# EAGLE library part AD9236 (library ic)
AD9236: 12bit A/D converter (Analog Devices) 80MSPS, 3V supply, 2Vpp differential input
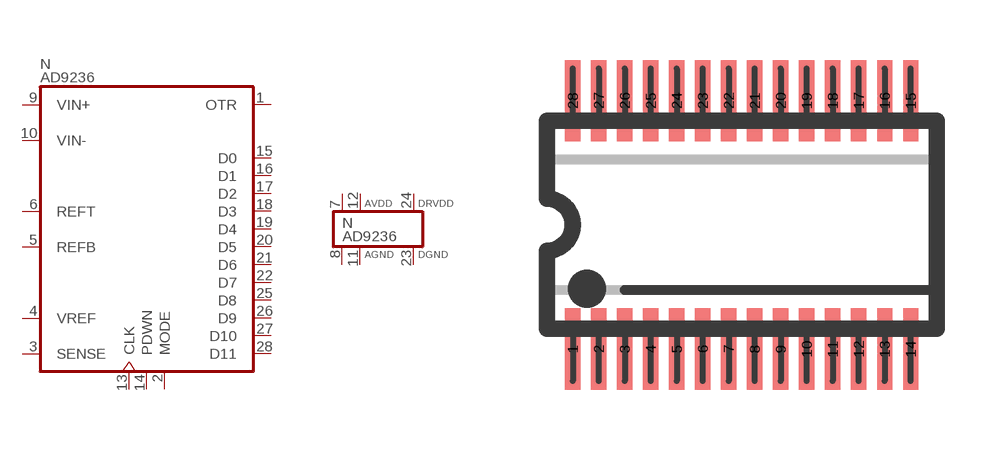
[diagram p68: symbol with the pads of SSOP28; footprint SSOP28]

Designator prefix N; gates  =AD9236 P=VAD9236

## AD9236  [SSOP28]
1   :OTR
2   :MODE
3   :SENSE
4   :VREF
5   :REFB
6   :REFT
7  P:AVDD  pwr
8  P:AGND  pwr
9   :VIN+
10   :VIN-
11  P:AGND  pwr
12  P:AVDD  pwr
13   :CLK
14   :PDWN
15   :D0
16   :D1
17   :D2
18   :D3
19   :D4
20   :D5
21   :D6
22   :D7
23  P:DGND  pwr
24  P:DRVDD  pwr
25   :D8
26   :D9
27   :D10
28   :D11

## Footprint SSOP28 (pad centres in mm)
SSOP-28, SMD SSOP IC package, 28 pins (fine pitch SMD)
smd 0.381 x 2.032: 1 -4.227,-3.104; 2 -3.576,-3.104; 3 -2.926,-3.104; 4 -2.276,-3.104; 5 -1.626,-3.104; 6 -0.975,-3.104; 7 -0.325,-3.104; 8 0.325,-3.104; 9 0.975,-3.104; 10 1.626,-3.104; 11 2.276,-3.104; 12 2.926,-3.104; 13 3.576,-3.104; 14 4.226,-3.104; 15 4.226,3.104; 16 3.576,3.104; 17 2.926,3.104; 18 2.276,3.104; 19 1.626,3.104; 20 0.975,3.104; 21 0.325,3.104; 22 -0.325,3.104; 23 -0.975,3.104; 24 -1.626,3.104; 25 -2.276,3.104; 26 -2.926,3.104; 27 -3.576,3.104; 28 -4.227,3.104